# EAGLE library part PIC16F722-I/SS (library ics)
8-Bit CMOS Microcontrollers
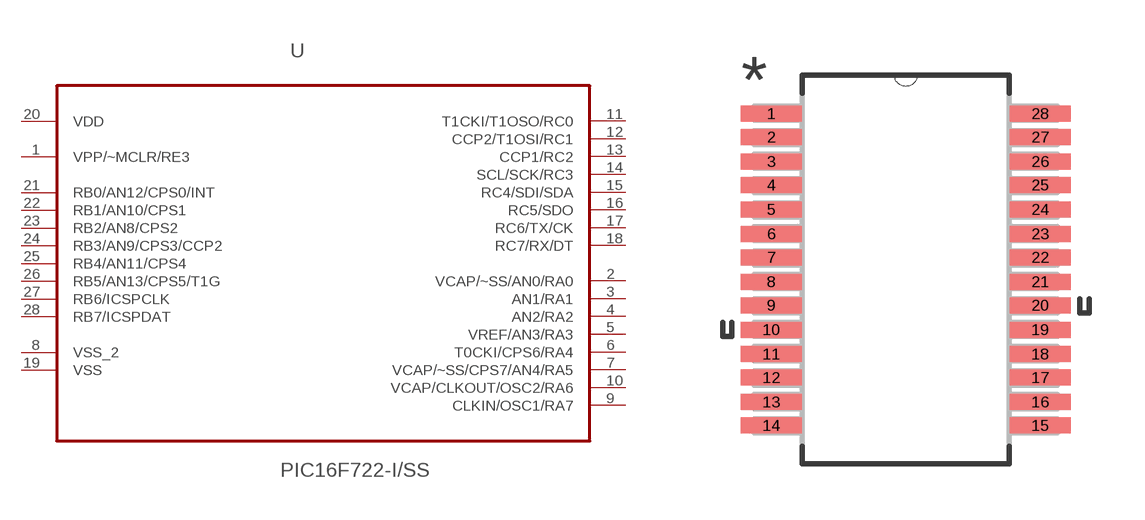
[diagram p1: symbol with the pads of SOP65P780X200-28N; footprint SOP65P780X200-28N]

Designator prefix -

## PIC16F722-I/SS (MPN: PIC16F722-I/SS; OC_FARNELL: 1630147; OC_NEWARK: 54M4996; PACKAGE: SOP-28; SUPPLIER: Microchip)  [SOP65P780X200-28N]
1  VPP/~MCLR/RE3  in
2  VCAP/~SS/AN0/RA0
3  AN1/RA1
4  AN2/RA2
5  VREF/AN3/RA3
6  T0CKI/CPS6/RA4
7  VCAP/~SS/CPS7/AN4/RA5
8  VSS_2  pas
9  CLKIN/OSC1/RA7
10  VCAP/CLKOUT/OSC2/RA6
11  T1CKI/T1OSO/RC0
12  CCP2/T1OSI/RC1
13  CCP1/RC2
14  SCL/SCK/RC3
15  RC4/SDI/SDA
16  RC5/SDO
17  RC6/TX/CK
18  RC7/RX/DT
19  VSS  pas
20  VDD  pwr
21  RB0/AN12/CPS0/INT
22  RB1/AN10/CPS1
23  RB2/AN8/CPS2
24  RB3/AN9/CPS3/CCP2
25  RB4/AN11/CPS4
26  RB5/AN13/CPS5/T1G
27  RB6/ICSPCLK
28  RB7/ICSPDAT

## Footprint SOP65P780X200-28N (pad centres in mm)
smd 1.651 x 0.432: 1 -3.632,4.216; 2 -3.632,3.581; 3 -3.632,2.921; 4 -3.632,2.286; 5 -3.632,1.626; 6 -3.632,0.965; 7 -3.632,0.33; 8 -3.632,-0.33; 9 -3.632,-0.965; 10 -3.632,-1.626; 11 -3.632,-2.286; 12 -3.632,-2.921; 13 -3.632,-3.581; 14 -3.632,-4.216; 15 3.632,-4.216; 16 3.632,-3.581; 17 3.632,-2.921; 18 3.632,-2.286; 19 3.632,-1.626; 20 3.632,-0.965; 21 3.632,-0.33; 22 3.632,0.33; 23 3.632,0.965; 24 3.632,1.626; 25 3.632,2.286; 26 3.632,2.921; 27 3.632,3.581; 28 3.632,4.216